# Altium schematic symbol library Barrel Plug.Schlib: 1 symbol
Pins are listed as number, name and electrical type; pins without a type are passive.

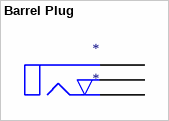
[diagram p0: symbol Barrel Plug]

## Barrel Plug
designator *
pins: 1, 2  , 3